# Altium footprint library Miscellaneous.PcbLib: 11 footprints
Each footprint in its own frame and in the unit in brackets; x right, y up, seen from the top. Pads: shape width x height; smd on the part's side, far side on the other; paste and mask are expansions set on the pad; w line width, h text height; cw(c..) or ccw(c..) is an arc to the next point about the centre after c.
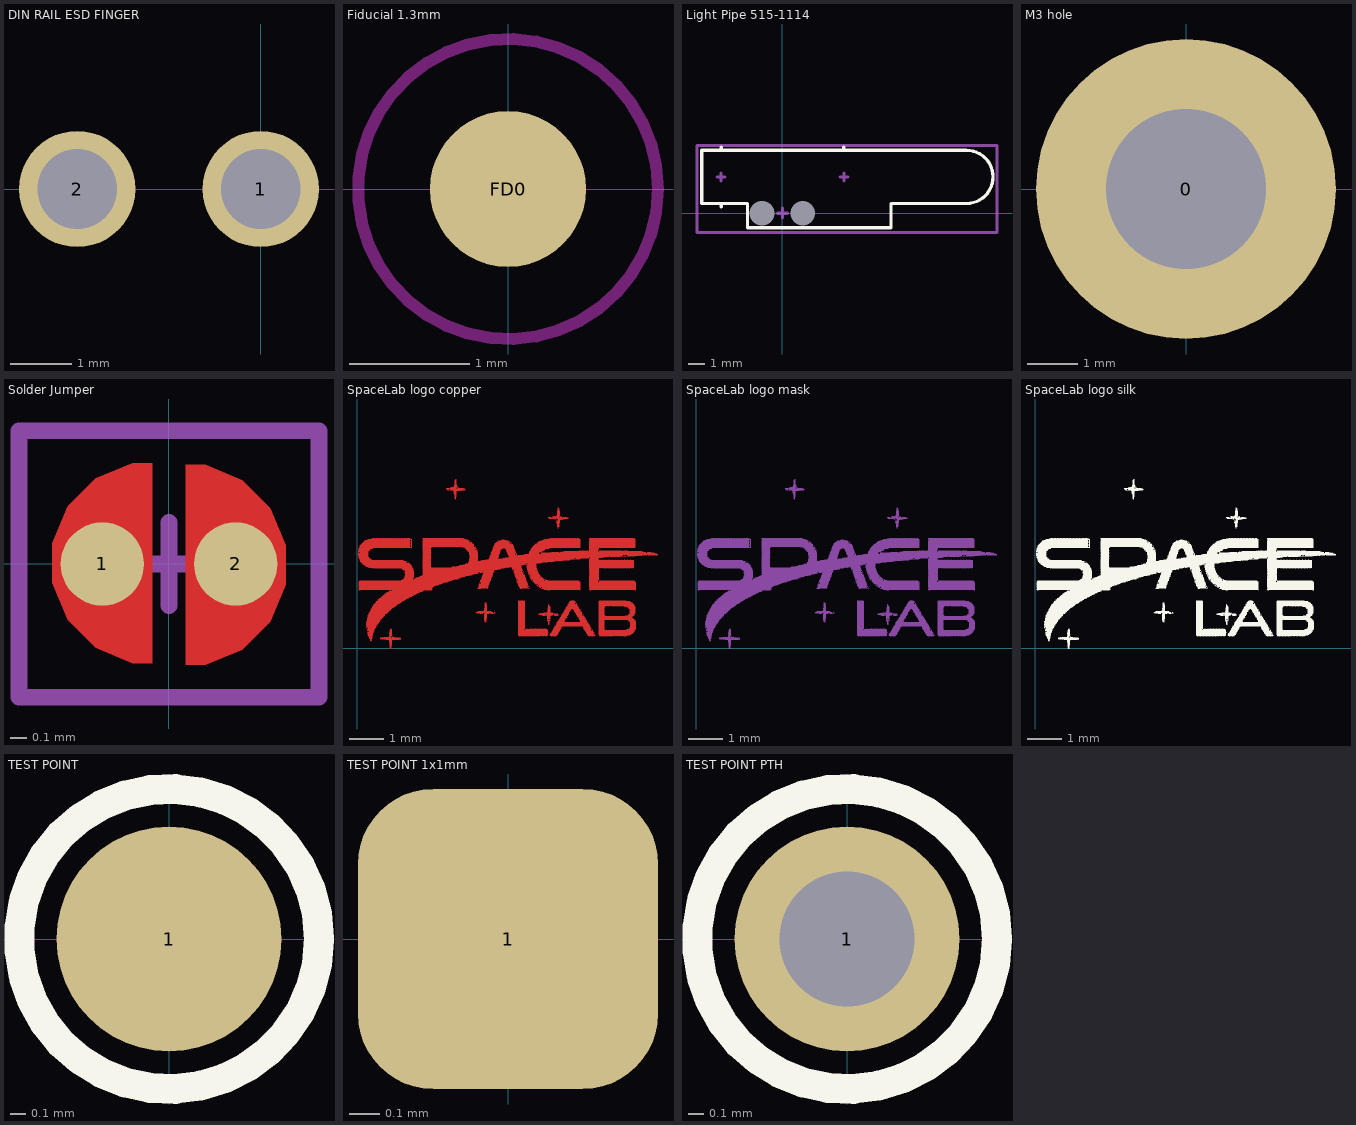
[diagram p0: the footprints below, top view; thin cyan lines are the x and y axes]

## DIN RAIL ESD FINGER [mm]
pads (2):
  round 1.9 hole 1.3: 1(0,0) 2(-3,0)
3D body "CH Aterramento I_O.STEP": height 3.2, standoff -2, extent -9.5,-0.25 0.5,6.798

## Fiducial 1.3mm [mm]
pads (1):
  round 1.3 smd mask+0.6: FD0(0,0)
Top Layer keep-out:
  circle w0.1: c0,0 r1.25

## Light Pipe 515-1114 [mm]
pads (2):
  round 0 hole 1.52 unplated: 0(-1.27,0) 0(1.27,0)
Top Overlay:
  lines w0.2: -3.8,0.4 -3.8,0.6 ; -3.8,3.9 -3.8,4.1 ; 3.8,3.9 3.8,4.1 ; -5,0.6 -2.17,0.6 -2.17,-0.9 6.73,-0.9 6.73,0.6 11.405,0.6 ccw(c11.405,2.25) 11.405,3.9 -5,3.9 -5,0.6
Mechanical 15:
  lines w0.2: -4.06,2.25 -3.56,2.25 ; -3.81,2 -3.81,2.5 ; -0.3,0 0.3,0 ; 0,-0.3 0,0.3 ; 3.56,2.25 4.06,2.25 ; 3.81,2 3.81,2.5 ; -5.3,-1.2 -5.3,4.2 13.3,4.2 13.3,-1.2 -5.3,-1.2
3D body "5151114F.STEP": height 9.13, standoff -2.8, extent -4.87,-0.775 12.93,3.825

## M3 hole [mm]
pads (1):
  round 6 hole 3.2: 0(0,0)

## Solder Jumper [mm]
pads (2):
  round 0.5 smd paste-0.25: 1(-0.4,0) 2(0.4,0)
Top Layer:
  region: -0.1,-0.594 -0.219,-0.594 -0.44,-0.503 -0.609,-0.334 -0.7,-0.113 -0.7,0.125 -0.609,0.346 -0.44,0.515 -0.219,0.606 -0.1,0.606
  region: 0.1,0.594 0.219,0.594 0.44,0.503 0.609,0.334 0.7,0.113 0.7,-0.125 0.609,-0.346 0.44,-0.515 0.219,-0.606 0.1,-0.606
Mechanical 15:
  lines w0.1: -0.25,0 0.25,0 ; 0,-0.25 0,0.25 ; -0.9,-0.8 0.9,-0.8 0.9,0.8 -0.9,0.8 -0.9,-0.8

## SpaceLab logo copper [mm]
Top Layer:
  drawing of 18 lines, arcs and shapes, not listed

## SpaceLab logo mask [mm]
Top Solder:
  drawing of 18 lines, arcs and shapes, not listed

## SpaceLab logo silk [mm]
Top Overlay:
  drawing of 18 lines, arcs and shapes, not listed

## TEST POINT [mm]
pads (1):
  round 1.5 smd: 1(0,0)
Top Overlay:
  circle w0.2: c0,0 r1

## TEST POINT 1x1mm [mm]
pads (1):
  rrect50% 1x1 smd: 1(0,0)

## TEST POINT PTH [mm]
pads (1):
  round 1.5 hole 0.9: 1(0,0)
Top Overlay:
  circle w0.2: c0,0 r1